# Altium footprint library RESC6532X80N.PcbLib: 1 footprints
Each footprint in its own frame and in the unit in brackets; x right, y up, seen from the top. Pads: shape width x height; smd on the part's side, far side on the other; paste and mask are expansions set on the pad; w line width, h text height; cw(c..) or ccw(c..) is an arc to the next point about the centre after c.
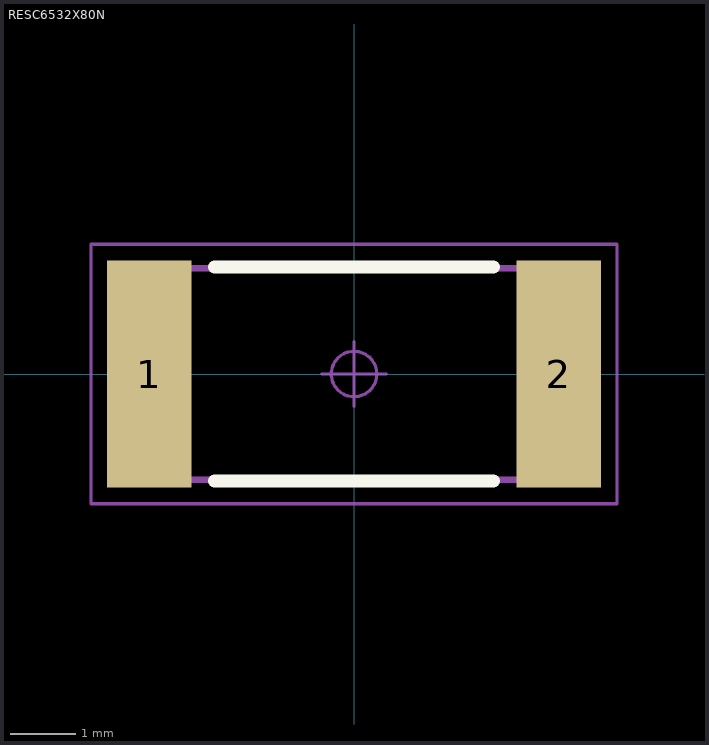
[diagram p0: the footprint, top view; thin cyan lines are the x and y axes]

## RESC6532X80N [mm] "Resistor, Chip; 6.5mm L X 3.25mm W X 0.80mm H, IPC Medium Density"
height 0.8
pads (2):
  rect 1.3x3.5 smd: 1(-3.15,0) 2(3.15,0)
Top Overlay:
  lines w0.2: -2.15,-1.65 2.15,-1.65 ; -2.15,1.65 2.15,1.65
Mechanical 14:
  lines w0.1: -3.25,-1.625 -3.25,1.625 3.25,1.625 3.25,-1.625 -3.25,-1.625
Mechanical 15:
  circle w0.05: c0,0 r0.35
  lines w0.05: -0.5,0 0.5,0 ; 0,-0.5 0,0.5 ; -4.05,-2 -4.05,2 4.05,2 4.05,-2 -4.05,-2
3D body "RESC6532X80N.stp": height 0.8, standoff 0, extent -3.25,-1.625 3.25,1.625